# Altium schematic symbol library NZ2520SHA-25.000000M-NSC5072D.Schlib: 1 symbol
Pins are listed as number, name and electrical type; pins without a type are passive.

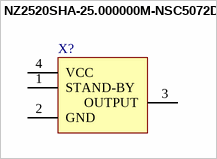
[diagram p0: symbol NZ2520SHA-25.000000M-NSC5072D]

## NZ2520SHA-25.000000M-NSC5072D
designator X?
Oscillator
pins: 1 STAND-BY, 2 GND, 3 OUTPUT, 4 VCC